# Altium schematic symbol library BB-HEADER-P01-P07.SchLib: 1 symbol
Pins are listed as number, name and electrical type; pins without a type are passive.

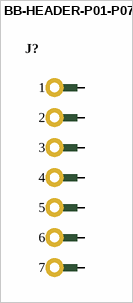
[diagram p0: symbol BB-HEADER-P01-P07]

## BB-HEADER-P01-P07
designator J?  (value not drawn)
BB Header, Vertical, Male, 0.1", 2.54mm, P01-P07
pins: 1, 2, 3, 4, 5, 6, 7